# Altium schematic symbol library AP2114H-3.3TRG1.SchLib: 1 symbol
Pins are listed as number, name and electrical type; pins without a type are passive.

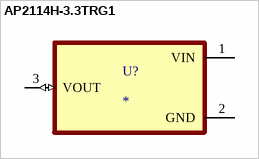
[diagram p0: symbol AP2114H-3.3TRG1]

## AP2114H-3.3TRG1
designator U?
MP: AP2114H-3.3TRG1; MF: {'manufacturer': u'Diodes Inc.'}; Price: None; Availability: Unavailable; Value: *; Package: None
footprint SOT230P700X180-4N
pins: 1 VIN (power), 2 GND (power), 3 VOUT (io)